# Altium schematic symbol library AXK500137YG.SchLib: 1 symbol
Pins are listed as number, name and electrical type; pins without a type are passive.

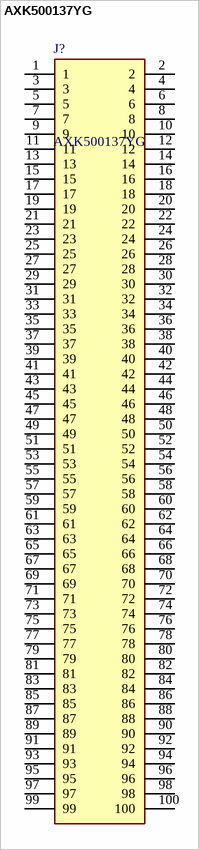
[diagram p0: symbol AXK500137YG]

## AXK500137YG
designator J?
Board to Board & Mezzanine Connectors CONN SOCKET BRD/BRD 100 POS 0.5mm; Manufacturer_Name: Panasonic; Geometry.Height: 2.55mm; Manufacturer_Part_Number: AXK500137YG; Mouser Part Number: 769-AXK500137YG; Mouser Price/Stock: https://www.mouser.co.uk/ProductDetail/Panasonic-Industrial-Devices/AXK500137YG?qs=2rFUEsTwVNyhvaP0YC8Z%2Fg%3D%3D; Arrow Part Number: AXK500137YG; Arrow Price/Stock: https://www.arrow.com/en/products/axk500137yg/panasonic?utm_currency=USD&region=nac; Datasheet Link: https://industry.panasonic.com/ac/cdn/e/control/connector/base-base/catalog/con_eng_p5k.pdf
footprint AXK500137YG
pins: 1, 2, 3, 4, 5, 6, 7, 8, 9, 10, 11, 12, 13, 14, 15, 16, 17, 18, 19, 20, 21, 22, 23, 24, 25, 26, 27, 28, 29, 30, 31, 32, 33, 34, 35, 36, 37, 38, 39, 40, 41, 42, 43, 44, 45, 46, 47, 48, 49, 50, 51, 52, 53, 54, 55, 56, 57, 58, 59, 60, 61, 62, 63, 64, 65, 66, 67, 68, 69, 70, 71, 72, 73, 74, 75, 76, 77, 78, 79, 80, 81, 82, 83, 84, 85, 86, 87, 88, 89, 90, 91, 92, 93, 94, 95, 96, 97, 98, 99, 100